# Altium footprint library BBCMP-P18-M900X800.PcbLib: 1 footprints
Each footprint in its own frame and in the unit in brackets; x right, y up, seen from the top. Pads: shape width x height; smd on the part's side, far side on the other; paste and mask are expansions set on the pad; w line width, h text height; cw(c..) or ccw(c..) is an arc to the next point about the centre after c.
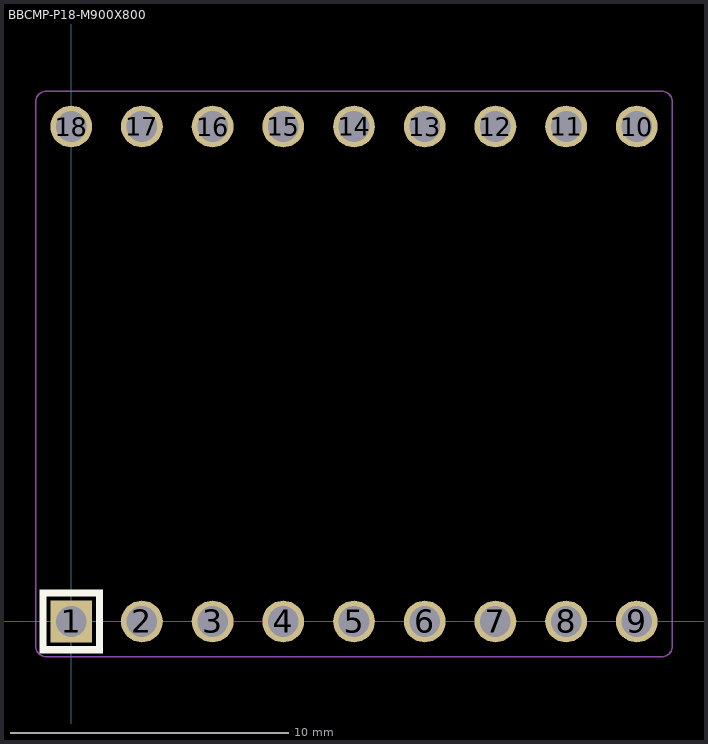
[diagram p0: the footprint, top view; thin cyan lines are the x and y axes]

## BBCMP-P18-M900X800 [mm] "BB component, 900mil width, 800mil high"
pads (18):
  rect 1.5x1.5 hole 1.1: 1(0,0)
  round 1.5 hole 1.1: 2(2.54,0) 3(5.08,0) 4(7.62,0) 5(10.16,0) 6(12.7,0) 7(15.24,0) 8(17.78,0) 9(20.32,0) 10(20.32,17.78) 11(17.78,17.78) 12(15.24,17.78) 13(12.7,17.78) 14(10.16,17.78) 15(7.62,17.78) 16(5.08,17.78) 17(2.54,17.78) 18(0,17.78)
Top Overlay:
  rectangle: -1.143,0.889 1.143,1.143
  rectangle: 0.889,-1.143 1.143,1.143
  rectangle: -1.143,-1.143 1.143,-0.889
  rectangle: -1.143,-1.143 -0.889,1.016
Mechanical 1:
  lines w0.05: -1.27,-0.889 ccw(c-0.889,-0.889) -0.889,-1.27 21.209,-1.27 ccw(c21.209,-0.889) 21.59,-0.889 21.59,18.669 ccw(c21.209,18.669) 21.209,19.05 -0.889,19.05 ccw(c-0.889,18.669) -1.27,18.669 -1.27,-0.889
3D body: height 8.54, standoff -3, extent -1.27,16.51 21.59,19.05
3D body: height 8.54, standoff -3, extent -1.27,-1.27 21.59,1.27